# EAGLE library part 691321100008 (library Wuerth_Elektronik_eiCan_Terminal_Blocks_v2.0)
WR-TBL Serie 3211 - 3.50mm Vertical PCB Header , 8 Pins
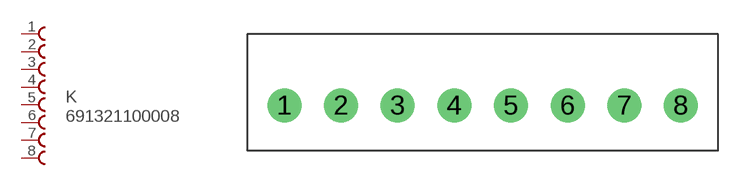
[diagram p12: symbol with the pads of 691321100008; footprint 691321100008]

Designator prefix K

## 691321100008  [691321100008]
1  1  pas
2  2  pas
3  3  pas
4  4  pas
5  5  pas
6  6  pas
7  7  pas
8  8  pas

## Footprint 691321100008 (pad centres in mm)
WR-TBL Serie 3211 - 3.50mm Vertical PCB Header , 8 Pins
drill 1.4 round: 1 -10.5,0; 2 -7,0; 3 -3.5,0; 4 0,0; 5 3.5,0; 6 7,0; 7 10.5,0; 8 14,0